# Altium footprint library G5V-2-H1-5V.PcbLib: 1 footprints
Each footprint in its own frame and in the unit in brackets; x right, y up, seen from the top. Pads: shape width x height; smd on the part's side, far side on the other; paste and mask are expansions set on the pad; w line width, h text height; cw(c..) or ccw(c..) is an arc to the next point about the centre after c.
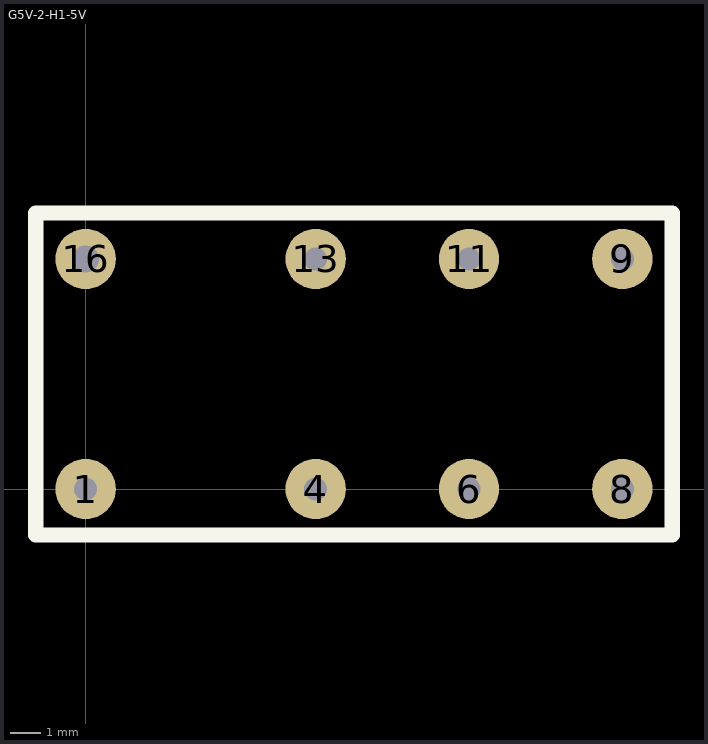
[diagram p0: the footprint, top view; thin cyan lines are the x and y axes]

## G5V-2-H1-5V [mm]
pads (8):
  round 2 hole 0.762: 1(0,0) 4(7.62,0) 6(12.7,0) 8(17.78,0) 9(17.78,7.62) 11(12.7,7.62) 13(7.62,7.62)
  round 2 hole 0.9: 16(0,7.62)
Top Overlay:
  lines w0.508: -1.651,-1.524 19.431,-1.524 19.431,9.144 -1.651,9.144 -1.651,-1.524
3D body "User Library-OMRON G5V-2.sldprt": height 10.92, standoff -4, extent -1.3,-1.2 19.1,8.8